# Altium schematic symbol library Components - 20.11.22 - 07.55.SchLib: 1 symbol
Pins are listed as number, name and electrical type; pins without a type are passive.

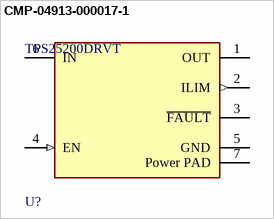
[diagram p0: symbol CMP-04913-000017-1]

## CMP-04913-000017-1
designator U?, comment TPS25200DRVT
IC PWR MGR EFUSE 6.5V 2.8A 6SON; Min Supply Voltage: 2.5V; Number of Channels: 1; Current: 2.5A; Max Operating Temperature: 125°C; Min Operating Temperature: -40°C; Voltage: 6.5V; Number of Outputs: 1; Lead Free: Lead Free; Contact Plating: Gold; Packaging: Cut Tape; Max Supply Voltage: 6.5V; REACH SVHC: No SVHC; Height: 0.75mm; Length: 2.1mm; RoHS Compliant: Yes; Features: Auto Retry; Mount: Surface Mount; Width: 2.1mm; Number of Pins: 6; Max Output Current: 2.5A
footprint FP-DRV0006A-IPC_C
footprint FP-DRV0006A-IPC_A
footprint FP-DRV0006A-IPC_B
footprint FP-DRV0006A-MFG
pins: 1 OUT (power), 2 ILIM (out), 3 ~{FAULT} (oc), 4 EN (in), 5 GND (power), 6 IN (oe), 7 Power PAD (power)